# Altium footprint library PESD4USB3UTBSQX.PcbLib: 1 footprints
Each footprint in its own frame and in the unit in brackets; x right, y up, seen from the top. Pads: shape width x height; smd on the part's side, far side on the other; paste and mask are expansions set on the pad; w line width, h text height; cw(c..) or ccw(c..) is an arc to the next point about the centre after c.
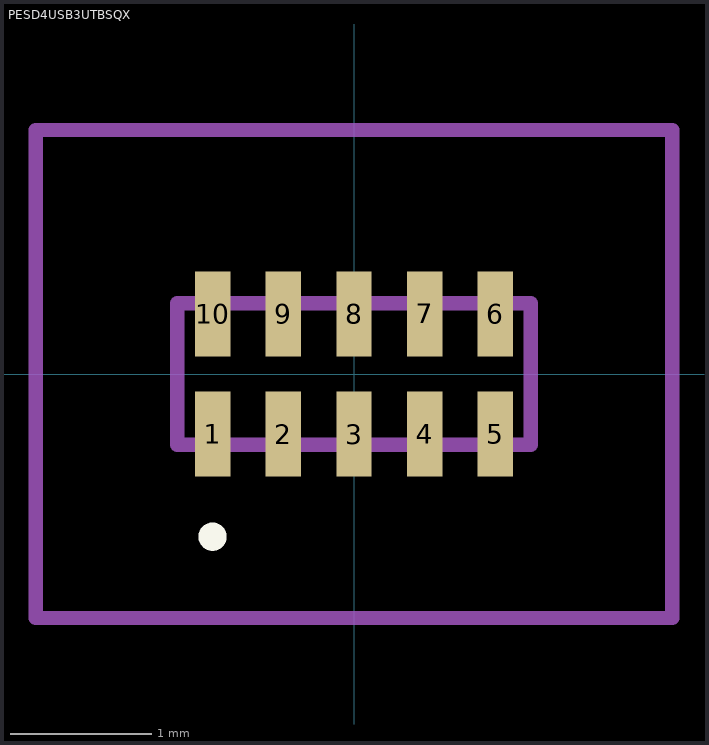
[diagram p0: the footprint, top view; thin cyan lines are the x and y axes]

## PESD4USB3UTBSQX [mm]
pads (10):
  rect 0.25x0.6 smd: 1(-1,-0.425) 2(-0.5,-0.425) 3(0,-0.425) 4(0.5,-0.425) 5(1,-0.425) 6(1,0.425) 7(0.5,0.425) 8(0,0.425) 9(-0.5,0.425) 10(-1,0.425)
Top Overlay:
  lines w0.1: -1,-1.2 -1,-1.2 ; -1,-1.2 ccw(c-1,-1.15) -1,-1.1 ; -1,-1.2 cw(c-1,-1.15) -1,-1.1 ; -1,-1.1 -1,-1.1
Mechanical 15:
  lines w0.1: -1.25,-0.5 1.25,-0.5 1.25,0.5 -1.25,0.5 -1.25,-0.5
Mechanical 20:
  lines w0.1: -2.25,-1.725 2.25,-1.725 2.25,1.725 -2.25,1.725 -2.25,-1.725